# Altium schematic symbol library DIODE_SCHOTKY-DO214AA.SchLib: 1 symbol
Pins are listed as number, name and electrical type; pins without a type are passive.

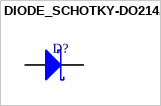
[diagram p0: symbol DIODE_SCHOTKY-DO214AA]

## DIODE_SCHOTKY-DO214AA
designator D?  (value not drawn)
pins: A, K